# EAGLE library part 52271-0679 (library ik)
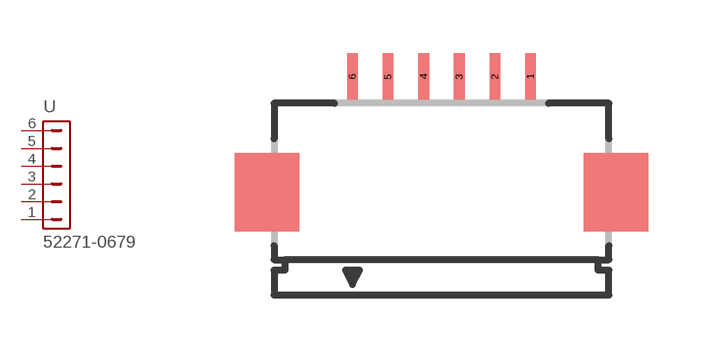
[diagram p0: symbol with the pads of 52271-0679; footprint 52271-0679]

Designator prefix -

## 52271-0679  [52271-0679]
1  6  pas
2  5  pas
3  4  pas
4  3  pas
5  2  pas
6  1  pas

## Footprint 52271-0679 (pad centres in mm)
6 pin bottom contact FPC, Molex 52271-0679
smd 0.3 x 1.3: 1 1.5,3.25; 2 0.5,3.25; 3 -0.5,3.25; 4 -1.5,3.25; 5 -2.5,3.25; 6 -3.5,3.25